# Altium footprint library TBP01R150804BE.PcbLib: 1 footprints
Each footprint in its own frame and in the unit in brackets; x right, y up, seen from the top. Pads: shape width x height; smd on the part's side, far side on the other; paste and mask are expansions set on the pad; w line width, h text height; cw(c..) or ccw(c..) is an arc to the next point about the centre after c.
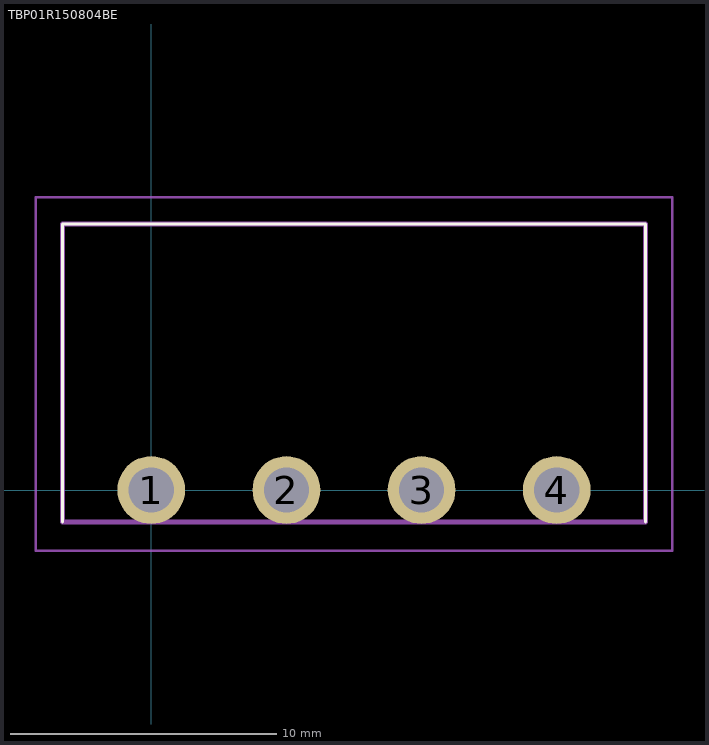
[diagram p0: the footprint, top view; thin cyan lines are the x and y axes]

## TBP01R150804BE [mm]
pads (4):
  round 2.55 hole 1.7: 1(0,0) 2(5.08,0) 3(10.16,0) 4(15.24,0)
Top Overlay:
  lines w0.1: -3.34,-1.2 -3.34,10 18.58,10 18.58,0 18.58,-1.2
Mechanical 15:
  lines w0.2: -3.34,-1.2 18.58,-1.2 18.58,10 -3.34,10 -3.34,-1.2
Mechanical 20:
  lines w0.1: -4.34,-2.275 19.58,-2.275 19.58,11 -4.34,11 -4.34,-2.275